# EAGLE library part FE06-1 (library bauteile_jbt)
FEMALE "Wannenbuchse"
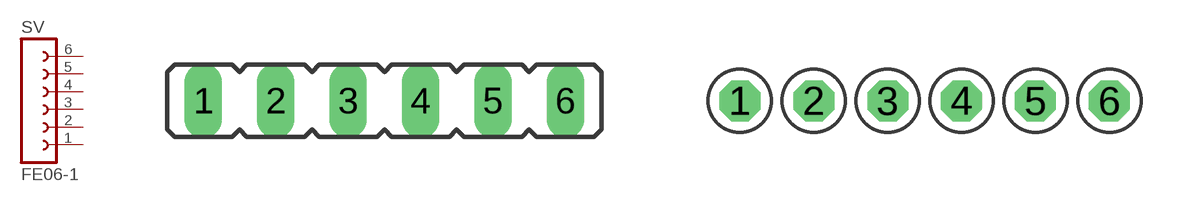
[diagram p16: symbol with the pads of FE06-1; footprints FE06-1, FE06-1-RAW]

Designator prefix SV

## FE06-1  [FE06-1]
1  1  pas
2  2  pas
3  3  pas
4  4  pas
5  5  pas
6  6  pas

## FE06-1FE06-1-RAW  [FE06-1-RAW]
Pads as for FE06-1

## Footprint FE06-1 (pad centres in mm)
FEMALE HEADER
drill 0.813 long: 1 -6.35,0; 2 -3.81,0; 3 -1.27,0; 4 1.27,0; 5 3.81,0; 6 6.35,0

## Footprint FE06-1-RAW (pad centres in mm)
FEMALE HEADER
drill 0.9 octagon: 1 -6.35,0; 2 -3.81,0; 3 -1.27,0; 4 1.27,0; 5 3.81,0; 6 6.35,0